# Altium footprint library CAP_CAN_TH_5mmLS12p5mmD.PcbLib: 1 footprints
Each footprint in its own frame and in the unit in brackets; x right, y up, seen from the top. Pads: shape width x height; smd on the part's side, far side on the other; paste and mask are expansions set on the pad; w line width, h text height; cw(c..) or ccw(c..) is an arc to the next point about the centre after c.
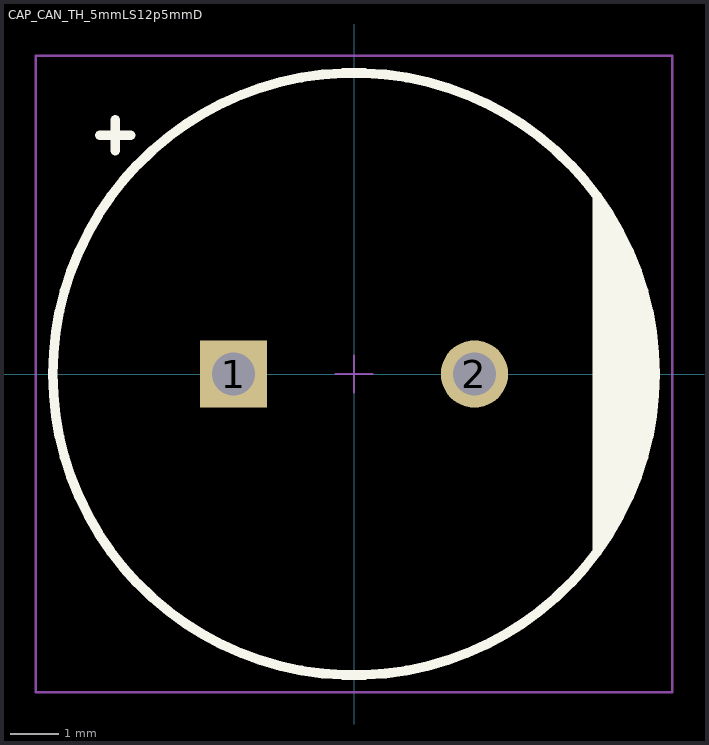
[diagram p0: the footprint, top view; thin cyan lines are the x and y axes]

## CAP_CAN_TH_5mmLS12p5mmD [mil]
pads (2):
  rect 55x55 hole 35: 1(-98.43,0)
  round 55 hole 35: 2(98.43,0)
Top Overlay:
  circle w7.87: c0,0 r246.06
  region: 195,145 195,-145 225,-100 245,-25 246.06,0 245,30 235,75 215,120
  lines w7.87: -207.5,195 -182.5,195 ; -195,182.5 -195,207.5
Mechanical 15:
  lines w1.97: -15,0 15,0 ; 0,-15 0,15 ; -260,-260 -260,260 260,260 260,-260 -260,-260